# EAGLE library part 472131020421 (library WS-TOTV)
WS-TOTV Ø 6.35 mm Panel Cut-Out Right Angle Operation Toggle Switch Material Properties Actuator Material Copper Alloy Cover Material Stainless Steel Frame Material DAP Frame Flammability Rating UL94 V-0 Moveable Contact Material Copper Alloy Moveable Contact Plating Silver Stationary Contact Material Copper Alloy Stationary Contact Plating Silver Terminal Material Copper Alloy Terminal Plating Silver Electrical Properties IR 1 A VR 30 V (DC) Contact Resistance Initial 30 mΩ RISO 1000 MΩ Withstanding Voltage 500 V (AC) Mechanical Properties Electrical Life 50000 Steps Connection Type Opposite Side Connection General Information Operating Temperature -40 up to +85 °C <https://www.we-online.com/components/media/o718996v209%20family-totv-4721xx0x0xxx-new.jpg> Details see: www.we-online.com/components/products/WS-TOTV_635_CUT_OUT_RIGHT_ANGLE_TOGGLE_SWITCH <https://www.we-online.com/en/components/products/WS-TOTV_635_CUT_OUT_RIGHT_ANGLE_TOGGLE_SWITCH> Created by Ella Wu 2023-01-13
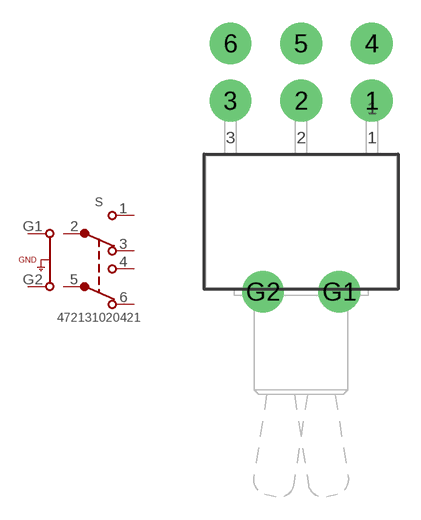
[diagram p4: symbol with the pads of 472131020421; footprint 472131020421]

Designator prefix S

## 472131020421 (ACTUATOR-LENGTH: 6.7mm; BUSHING-LENGTH: 7.1mm; DATASHEET-URL: https://www.we-online.com/redexpert/spec/472131020421?ae; MOUNT: THT; PART-NUMBER: 472131020421; SWITCHING-FUNCTION: ON-ON; VALUE: 472131020421)  [472131020421]
1  1  pas
2  2  pas
3  3  pas
4  4  pas
5  5  pas
6  6  pas
G1  7  pas
G2  8  pas

## Footprint 472131020421 (pad centres in mm)
WS-TOTV Ø 6.35 mm Panel Cut-Out Right Angle Operation Toggle Switch
drill 1.85: 1 4.7,6.35; 2 0,6.35; 3 -4.7,6.35; 4 4.7,10.16; 5 0,10.16; 6 -4.7,10.16; G1 2.54,-6.35; G2 -2.54,-6.35